# Altium schematic symbol library MachXO3.SchLib: 1 symbol
Pins are listed as number, name and electrical type; pins without a type are passive.

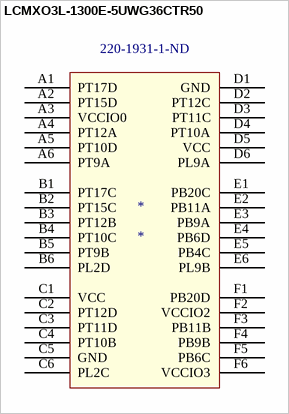
[diagram p0: symbol LCMXO3L-1300E-5UWG36CTR50]

## LCMXO3L-1300E-5UWG36CTR50
designator *  Supplier Part Number 1: 220-1931-1-ND
Supplier 1: Digi-Key
footprint WLCSP36
pins: A1 PT17D, A2 PT15D, A3 VCCIO0, A4 PT12A, A5 PT10D, A6 PT9A, B1 PT17C, B2 PT15C, B3 PT12B, B4 PT10C, B5 PT9B, B6 PL2D, C1 VCC, C2 PT12D, C3 PT11D, C4 PT10B, C5 GND, C6 PL2C, D1 GND, D2 PT12C, D3 PT11C, D4 PT10A, D5 VCC, D6 PL9A, E1 PB20C, E2 PB11A, E3 PB9A, E4 PB6D, E5 PB4C, E6 PL9B, F1 PB20D, F2 VCCIO2, F3 PB11B, F4 PB9B, F5 PB6C, F6 VCCIO3